# EAGLE library part XC95108 (library xl_cpld)
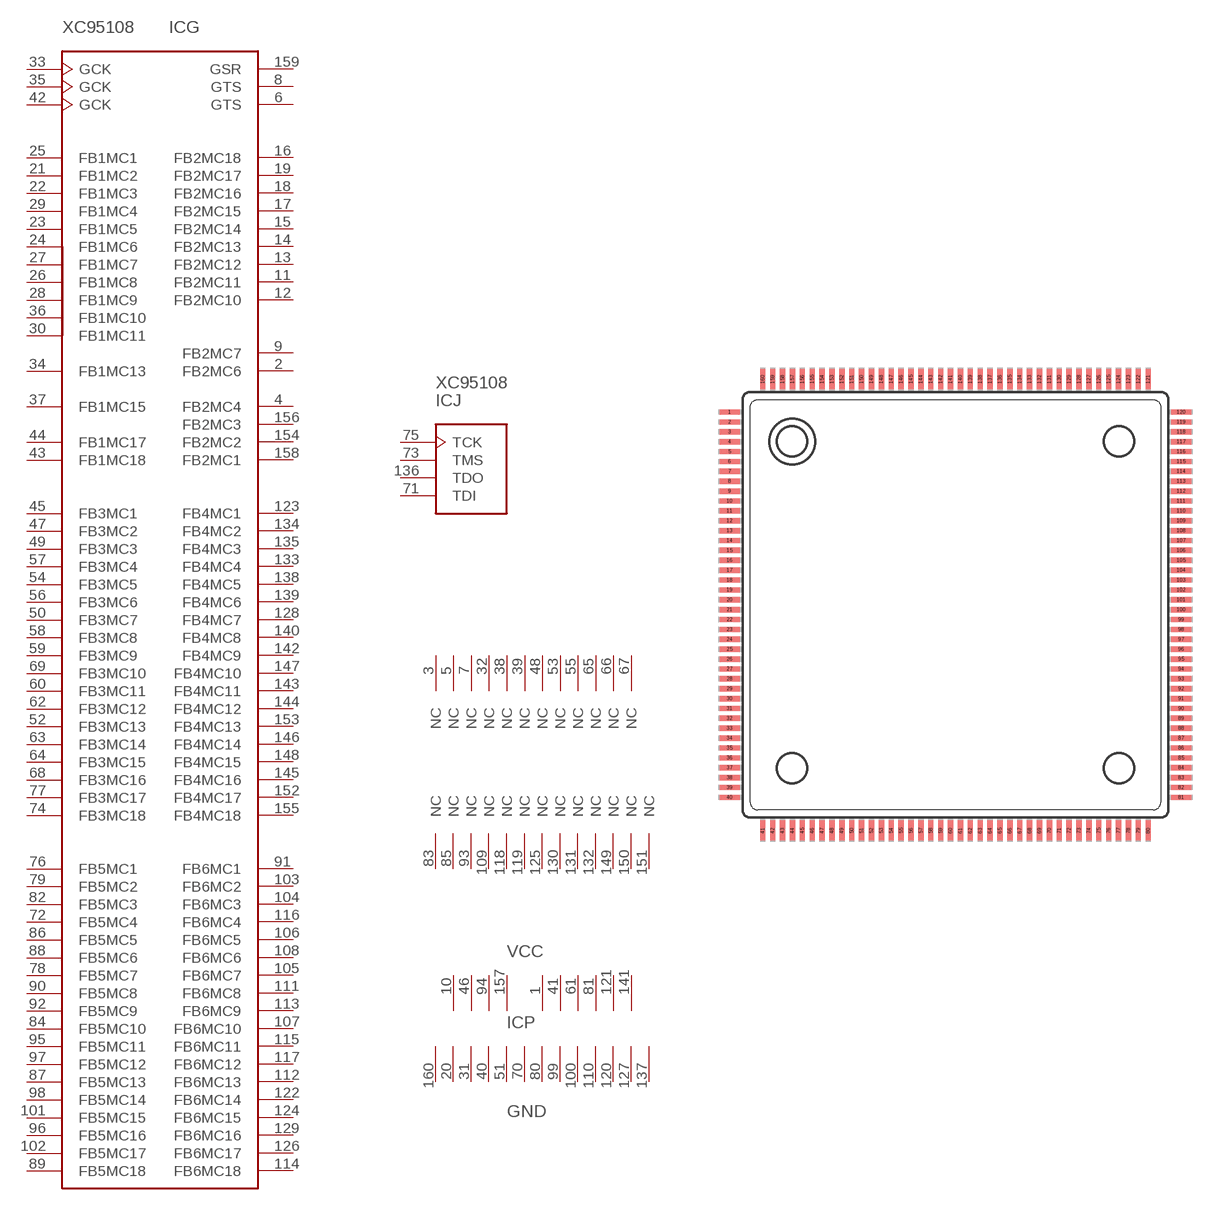
[diagram p2: symbol with the pads of QFP160; footprint QFP160]

Designator prefix IC; gates J=JTAG P=PWR23 NC=NC26 G=XC95108P

## XC95108  [QFP160]
1  P:VCC  pwr
2  G:FB2MC6
3  NC:NC  nc
4  G:FB2MC4
5  NC:NC  nc
6  G:GTS  in
7  NC:NC  nc
8  G:GTS  in
9  G:FB2MC7
10  P:VCC  pwr
11  G:FB2MC11
12  G:FB2MC10
13  G:FB2MC12
14  G:FB2MC13
15  G:FB2MC14
16  G:FB2MC18
17  G:FB2MC15  out
18  G:FB2MC16  out
19  G:FB2MC17  out
20  P:GND  pwr
21  G:FB1MC2
22  G:FB1MC3
23  G:FB1MC5
24  G:FB1MC6
25  G:FB1MC1
26  G:FB1MC8
27  G:FB1MC7
28  G:FB1MC9
29  G:FB1MC4
30  G:FB1MC11
31  P:GND  pwr
32  NC:NC  nc
33  G:GCK  in
34  G:FB1MC13
35  G:GCK  in
36  G:FB1MC10
37  G:FB1MC15
38  NC:NC  nc
39  NC:NC  nc
40  P:GND  pwr
41  P:VCC  pwr
42  G:GCK  in
43  G:FB1MC18
44  G:FB1MC17
45  G:FB3MC1
46  P:VCC  pwr
47  G:FB3MC2
48  NC:NC  nc
49  G:FB3MC3
50  G:FB3MC7
51  P:GND  pwr
52  G:FB3MC13
53  NC:NC  nc
54  G:FB3MC5
55  NC:NC  nc
56  G:FB3MC6
57  G:FB3MC4
58  G:FB3MC8
59  G:FB3MC9
60  G:FB3MC11
61  P:VCC  pwr
62  G:FB3MC12
63  G:FB3MC14
64  G:FB3MC15
65  NC:NC  nc
66  NC:NC  nc
67  NC:NC  nc
68  G:FB3MC16
69  G:FB3MC10
70  P:GND  pwr
71  J:TDI  in
72  G:FB5MC4
73  J:TMS  in
74  G:FB3MC18
75  J:TCK  in
76  G:FB5MC1
77  G:FB3MC17
78  G:FB5MC7
79  G:FB5MC2
80  P:GND  pwr
81  P:VCC  pwr
82  G:FB5MC3
83  NC:NC  nc
84  G:FB5MC10
85  NC:NC  nc
86  G:FB5MC5
87  G:FB5MC13
88  G:FB5MC6
89  G:FB5MC18
90  G:FB5MC8
91  G:FB6MC1
92  G:FB5MC9
93  NC:NC  nc
94  P:VCC  pwr
95  G:FB5MC11
96  G:FB5MC16
97  G:FB5MC12
98  G:FB5MC14
99  P:GND  pwr
100  P:GND  pwr
101  G:FB5MC15
102  G:FB5MC17
103  G:FB6MC2
104  G:FB6MC3
105  G:FB6MC7
106  G:FB6MC5
107  G:FB6MC10
108  G:FB6MC6
109  NC:NC  nc
110  P:GND  pwr
111  G:FB6MC8
112  G:FB6MC13
113  G:FB6MC9
114  G:FB6MC18
115  G:FB6MC11
116  G:FB6MC4
117  G:FB6MC12
118  NC:NC  nc
119  NC:NC  nc
120  P:GND  pwr
121  P:VCC  pwr
122  G:FB6MC14
123  G:FB4MC1
124  G:FB6MC15
125  NC:NC  nc
126  G:FB6MC17
127  P:GND  pwr
128  G:FB4MC7
129  G:FB6MC16
130  NC:NC  nc
131  NC:NC  nc
132  NC:NC  nc
133  G:FB4MC4
134  G:FB4MC2
135  G:FB4MC3
136  J:TDO  out
137  P:GND  pwr
138  G:FB4MC5
139  G:FB4MC6
140  G:FB4MC8
141  P:VCC  pwr
142  G:FB4MC9
143  G:FB4MC11
144  G:FB4MC12
145  G:FB4MC16
146  G:FB4MC14
147  G:FB4MC10
148  G:FB4MC15
149  NC:NC  nc
150  NC:NC  nc
151  NC:NC  nc
152  G:FB4MC17
153  G:FB4MC13
154  G:FB2MC2
155  G:FB4MC18
156  G:FB2MC3
157  P:VCC  pwr
158  G:FB2MC1
159  G:GSR  in
160  P:GND  pwr

## Footprint QFP160 (pad centres in mm)
smd 1.3 x 0.35: 1 -14.85,12.675; 2 -14.85,12.025; 3 -14.85,11.375; 4 -14.85,10.725; 5 -14.85,10.075; 6 -14.85,9.425; 7 -14.85,8.775; 8 -14.85,8.125; 9 -14.85,7.475; 10 -14.85,6.825; 11 -14.85,6.175; 12 -14.85,5.525; 13 -14.85,4.875; 14 -14.85,4.225; 15 -14.85,3.575; 16 -14.85,2.925; 17 -14.85,2.275; 18 -14.85,1.625; 19 -14.85,0.975; 20 -14.85,0.325; 21 -14.85,-0.325; 22 -14.85,-0.975; 23 -14.85,-1.625; 24 -14.85,-2.275; 25 -14.85,-2.925; 26 -14.85,-3.575; 27 -14.85,-4.225; 28 -14.85,-4.875; 29 -14.85,-5.525; 30 -14.85,-6.175; 31 -14.85,-6.825; 32 -14.85,-7.475; 33 -14.85,-8.125; 34 -14.85,-8.775; 35 -14.85,-9.425; 36 -14.85,-10.075; 37 -14.85,-10.725; 38 -14.85,-11.375; 39 -14.85,-12.025; 40 -14.85,-12.675; 81 14.85,-12.675; 82 14.85,-12.025; 83 14.85,-11.375; 84 14.85,-10.725; 85 14.85,-10.075; 86 14.85,-9.425; 87 14.85,-8.775; 88 14.85,-8.125; 89 14.85,-7.475; 90 14.85,-6.825; 91 14.85,-6.175; 92 14.85,-5.525; 93 14.85,-4.875; 94 14.85,-4.225; 95 14.85,-3.575; 96 14.85,-2.925; 97 14.85,-2.275; 98 14.85,-1.625; 99 14.85,-0.975; 100 14.85,-0.325; 101 14.85,0.325; 102 14.85,0.975; 103 14.85,1.625; 104 14.85,2.275; 105 14.85,2.925; 106 14.85,3.575; 107 14.85,4.225; 108 14.85,4.875; 109 14.85,5.525; 110 14.85,6.175; 111 14.85,6.825; 112 14.85,7.475; 113 14.85,8.125; 114 14.85,8.775; 115 14.85,9.425; 116 14.85,10.075; 117 14.85,10.725; 118 14.85,11.375; 119 14.85,12.025; 120 14.85,12.675
smd 0.35 x 1.3: 41 -12.675,-14.85; 42 -12.025,-14.85; 43 -11.375,-14.85; 44 -10.725,-14.85; 45 -10.075,-14.85; 46 -9.425,-14.85; 47 -8.775,-14.85; 48 -8.125,-14.85; 49 -7.475,-14.85; 50 -6.825,-14.85; 51 -6.175,-14.85; 52 -5.525,-14.85; 53 -4.875,-14.85; 54 -4.225,-14.85; 55 -3.575,-14.85; 56 -2.925,-14.85; 57 -2.275,-14.85; 58 -1.625,-14.85; 59 -0.975,-14.85; 60 -0.325,-14.85; 61 0.325,-14.85; 62 0.975,-14.85; 63 1.625,-14.85; 64 2.275,-14.85; 65 2.925,-14.85; 66 3.575,-14.85; 67 4.225,-14.85; 68 4.875,-14.85; 69 5.525,-14.85; 70 6.175,-14.85; 71 6.825,-14.85; 72 7.475,-14.85; 73 8.125,-14.85; 74 8.775,-14.85; 75 9.425,-14.85; 76 10.075,-14.85; 77 10.725,-14.85; 78 11.375,-14.85; 79 12.025,-14.85; 80 12.675,-14.85; 121 12.675,14.85; 122 12.025,14.85; 123 11.375,14.85; 124 10.725,14.85; 125 10.075,14.85; 126 9.425,14.85; 127 8.775,14.85; 128 8.125,14.85; 129 7.475,14.85; 130 6.825,14.85; 131 6.175,14.85; 132 5.525,14.85; 133 4.875,14.85; 134 4.225,14.85; 135 3.575,14.85; 136 2.925,14.85; 137 2.275,14.85; 138 1.625,14.85; 139 0.975,14.85; 140 0.325,14.85; 141 -0.325,14.85; 142 -0.975,14.85; 143 -1.625,14.85; 144 -2.275,14.85; 145 -2.925,14.85; 146 -3.575,14.85; 147 -4.225,14.85; 148 -4.875,14.85; 149 -5.525,14.85; 150 -6.175,14.85; 151 -6.825,14.85; 152 -7.475,14.85; 153 -8.125,14.85; 154 -8.775,14.85; 155 -9.425,14.85; 156 -10.075,14.85; 157 -10.725,14.85; 158 -11.375,14.85; 159 -12.025,14.85; 160 -12.675,14.85